# EAGLE library part IS31FL3236 (library issi)
36 CHANNELS LED DRIVER 36 constant current led driver channels with independent PWM control. Source: http://www.issi.com/WW/pdf/31FL3236.pdf
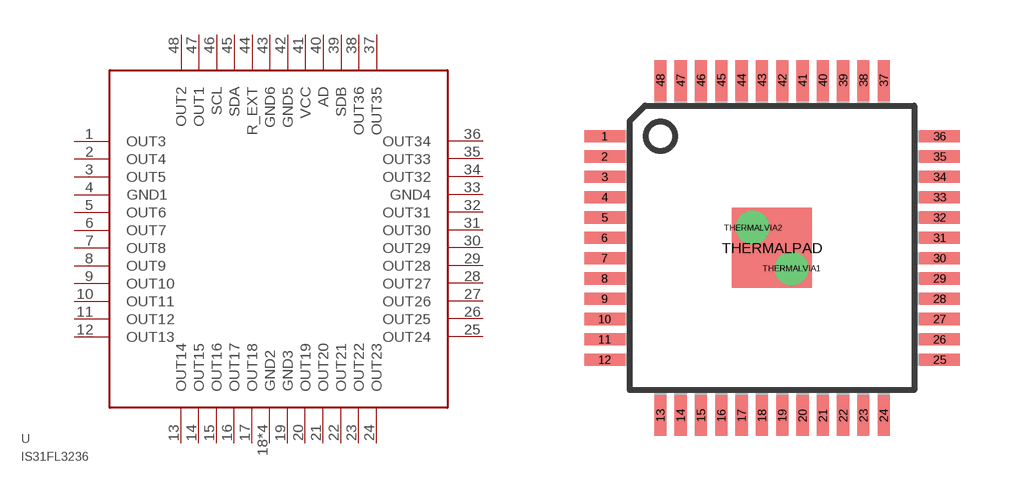
[diagram p1: symbol with the pads of TQFP48; footprint TQFP48]

Designator prefix -

## IS31FL3236  [TQFP48]
1  OUT3
2  OUT4
3  OUT5
4  GND1
5  OUT6
6  OUT7
7  OUT8
8  OUT9
9  OUT10
10  OUT11
11  OUT12
12  OUT13
13  OUT14
14  OUT15
15  OUT16
16  OUT17
17  OUT18
18  GND2
19  GND3
20  OUT19
21  OUT20
22  OUT21
23  OUT22
24  OUT23
25  OUT24
26  OUT25
27  OUT26
28  OUT27
29  OUT28
30  OUT29
31  OUT30
32  OUT31
33  GND4
34  OUT32
35  OUT33
36  OUT34
37  OUT35
38  OUT36
39  SDB
40  AD
41  VCC
42  GND5
43  GND6
44  R_EXT
45  SDA
46  SCL
47  OUT1
48  OUT2
THERMALPAD  GND2
THERMALVIA1  GND2
THERMALVIA2  GND2

## Footprint TQFP48 (pad centres in mm)
Thin Plasic Quad Flat Package
smd 1.016 x 0.305: 1 -4.191,2.794; 2 -4.191,2.286; 3 -4.191,1.778; 4 -4.191,1.27; 5 -4.191,0.762; 6 -4.191,0.254; 7 -4.191,-0.254; 8 -4.191,-0.762; 9 -4.191,-1.27; 10 -4.191,-1.778; 11 -4.191,-2.286; 12 -4.191,-2.794; 25 4.191,-2.794; 26 4.191,-2.286; 27 4.191,-1.778; 28 4.191,-1.27; 29 4.191,-0.762; 30 4.191,-0.254; 31 4.191,0.254; 32 4.191,0.762; 33 4.191,1.27; 34 4.191,1.778; 35 4.191,2.286; 36 4.191,2.794
smd 0.305 x 1.016: 13 -2.794,-4.191; 14 -2.286,-4.191; 15 -1.778,-4.191; 16 -1.27,-4.191; 17 -0.762,-4.191; 18 -0.254,-4.191; 19 0.254,-4.191; 20 0.762,-4.191; 21 1.27,-4.191; 22 1.778,-4.191; 23 2.286,-4.191; 24 2.794,-4.191; 37 2.794,4.191; 38 2.286,4.191; 39 1.778,4.191; 40 1.27,4.191; 41 0.762,4.191; 42 0.254,4.191; 43 -0.254,4.191; 44 -0.762,4.191; 45 -1.27,4.191; 46 -1.778,4.191; 47 -2.286,4.191; 48 -2.794,4.191
smd 2 x 2: THERMALPAD 0,0
drill 0.33 pad 0.61: THERMALVIA1 0.483,-0.508; THERMALVIA2 -0.483,0.508